# Altium footprint library PCB - CONNECTOR - TE 5227661-1.PCBLIB: 1 footprints
Each footprint in its own frame and in the unit in brackets; x right, y up, seen from the top. Pads: shape width x height; smd on the part's side, far side on the other; paste and mask are expansions set on the pad; w line width, h text height; cw(c..) or ccw(c..) is an arc to the next point about the centre after c.
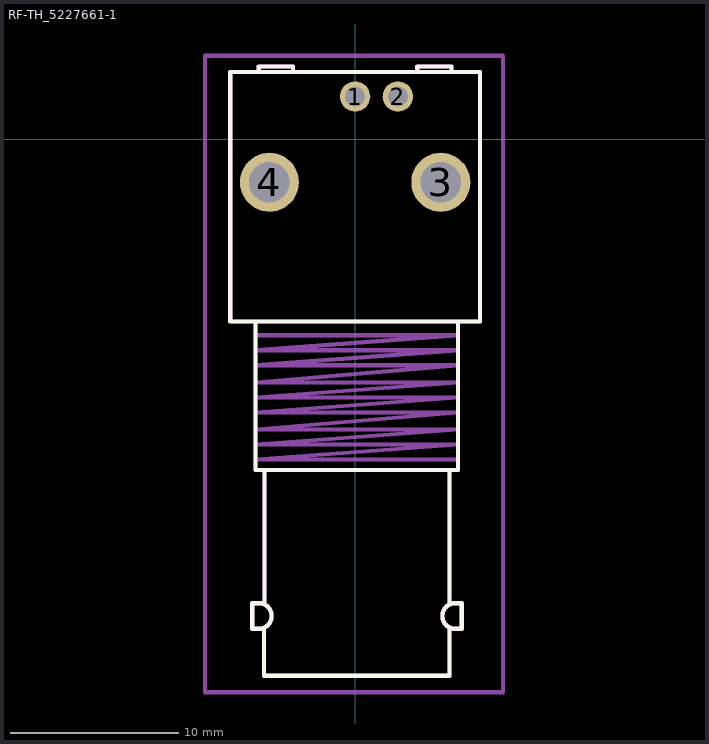
[diagram p0: the footprint, top view; thin cyan lines are the x and y axes]

## RF-TH_5227661-1 [mm]
pads (4):
  round 1.8 hole 1.2: 1(0,2.54) 2(2.54,2.54)
  round 3.5 hole 2.4: 3(5.08,-2.54) 4(-5.08,-2.54)
Top Overlay:
  lines w0.254: -5.904,-10.795 -5.904,-19.595 6.096,-19.595 6.096,-10.795 ; -5.715,4.064 -5.715,4.318 -3.683,4.318 -3.683,4.064 ; -5.404,-28.995 -5.404,-31.795 5.596,-31.795 ; -5.365,-27.487 -5.365,-19.595 ; 3.683,4.064 3.683,4.318 5.715,4.318 5.715,4.064 ; 5.596,-31.805 5.596,-29.011 ; 5.596,-27.487 5.596,-19.595 ; -7.4,-10.795 -7.4,-5.66 -7.4,4 7.4,4 7.4,-5.658 7.4,-10.795 -7.4,-10.795 ; -6.088,-29.011 -5.707,-29.011 ccw(c-5.707,-28.249) -5.707,-27.487 -6.088,-27.487 -6.088,-29.011 ; 5.938,-29.011 cw(c5.938,-28.249) 5.938,-27.487 6.319,-27.487 6.319,-29.011 5.938,-29.011
Top Assembly:
  lines w0.254: -5.904,-18.978 6.096,-18.978 ; -5.904,-11.612 6.096,-11.612 ; -5.904,-10.795 -5.904,-19.595 6.096,-19.595 6.096,-10.795 ; -5.873,-18.978 6.065,-18.089 -5.873,-18.089 6.065,-17.2 -5.873,-17.2 6.065,-16.184 -5.873,-16.184 6.065,-15.295 -5.873,-15.295 6.065,-14.406 -5.873,-14.406 6.065,-13.39 -5.873,-13.39 6.065,-12.501 -5.873,-12.501 6.065,-11.612 ; -5.715,4.064 -5.715,4.318 -3.683,4.318 -3.683,4.064 ; -5.404,-28.995 -5.404,-31.795 5.596,-31.795 ; -5.365,-27.487 -5.365,-19.595 ; 3.683,4.064 3.683,4.318 5.715,4.318 5.715,4.064 ; 5.596,-31.805 5.596,-29.011 ; 5.596,-27.487 5.596,-19.595 ; -7.4,-10.795 7.4,-10.795 7.4,-5.658 7.4,4 -7.4,4 -7.4,-5.66 -7.4,-10.795 ; -6.088,-29.011 -5.707,-29.011 ccw(c-5.707,-28.249) -5.707,-27.487 -6.088,-27.487 -6.088,-29.011 ; 5.938,-29.011 cw(c5.938,-28.249) 5.938,-27.487 6.319,-27.487 6.319,-29.011 5.938,-29.011
Top Courtyard:
  lines w0.254: -8.89,-32.766 8.763,-32.766 8.763,4.953 -8.89,4.953 -8.89,-32.766
Top Designator (Mech9):
  text ".Designator" at -8.712,6.265 h1.5
3D body "c-5227661-01-a-3d.stp": height 15.62, standoff -4.37, extent -7.379,-31.1 7.379,4.46